# Altium footprint library Relay_SMD.PcbLib: 21 footprints (part 1 of 2)
Each footprint in its own frame and in the unit in brackets; x right, y up, seen from the top. Pads: shape width x height; smd on the part's side, far side on the other; paste and mask are expansions set on the pad; w line width, h text height; cw(c..) or ccw(c..) is an arc to the next point about the centre after c.
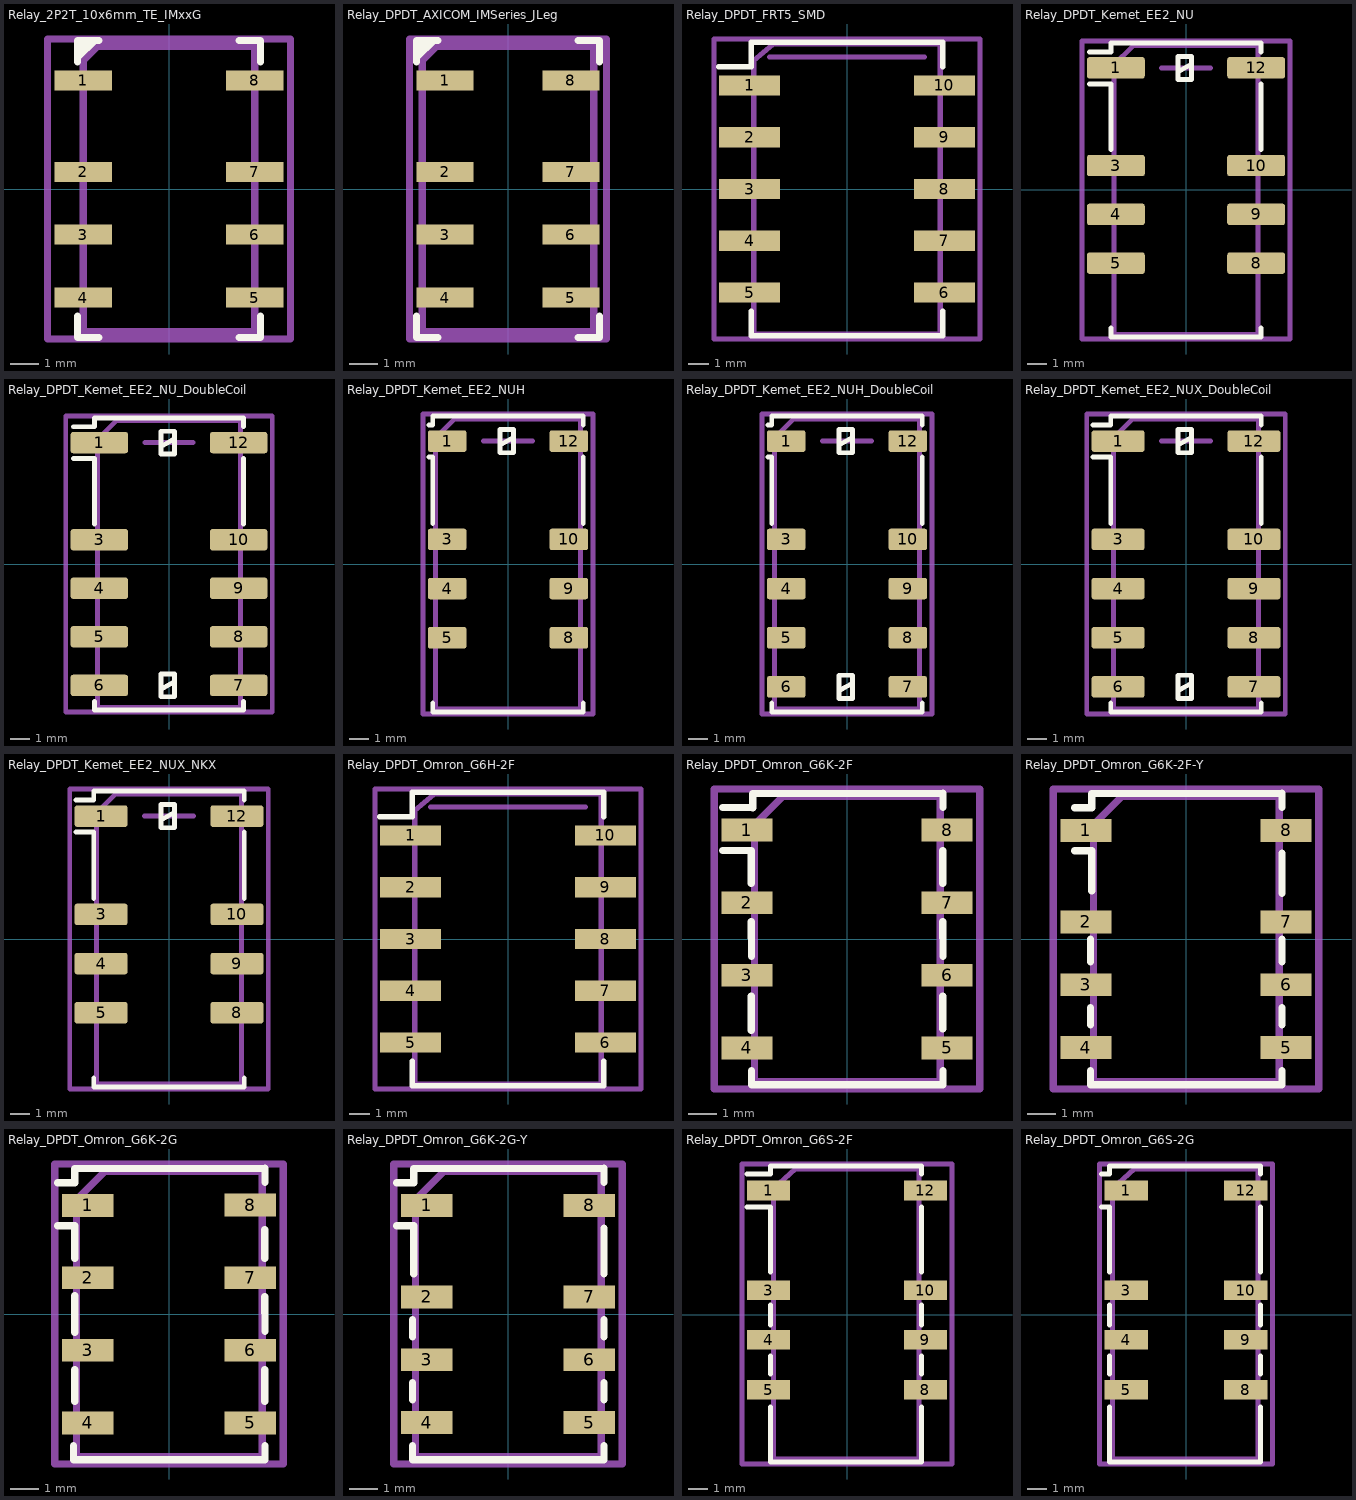
[diagram p0: the footprints below, top view; thin cyan lines are the x and y axes]

## Relay_2P2T_10x6mm_TE_IMxxG [mm]
pads (8):
  rect 2x0.7 smd: 1(-3,3.8) 2(-3,0.6) 3(-3,-1.6) 4(-3,-3.8) 5(3,-3.8) 6(3,-1.6) 7(3,0.6) 8(3,3.8)
F.SilkS:
  lines w0.254: -3.2,-4.45 -3.2,-5.2 -2.45,-5.2 ; -3.2,4.45 -3.2,5.2 -2.45,5.2 ; -3.2,4.6 -2.6,5.2 ; -3.2,4.75 -2.75,5.2 ; -3.2,4.9 -2.9,5.2 ; -3.2,5.05 -3.05,5.2 ; 2.45,-5.2 3.2,-5.2 3.2,-4.45 ; 2.45,5.2 3.2,5.2 3.2,4.45
F.Fab:
  lines w0.254: -3,-5 3,-5 3,5 -2.5,5 -3,4.5 -3,-5
  text "'.Designator'" at 0.9,-4.047 h1
F.CrtYd:
  lines w0.254: -4.25,-5.25 4.25,-5.25 4.25,5.25 -4.25,5.25 -4.25,-5.25

## Relay_DPDT_AXICOM_IMSeries_JLeg [mm]
pads (8):
  rect 2x0.7 smd: 1(-2.2,3.8) 2(-2.2,0.6) 3(-2.2,-1.6) 4(-2.2,-3.8) 5(2.2,-3.8) 6(2.2,-1.6) 7(2.2,0.6) 8(2.2,3.8)
F.SilkS:
  lines w0.254: -3.2,-4.45 -3.2,-5.2 -2.45,-5.2 ; -3.2,4.45 -3.2,5.2 -2.45,5.2 ; -3.2,4.6 -2.6,5.2 ; -3.2,4.75 -2.75,5.2 ; -3.2,4.9 -2.9,5.2 ; -3.2,5.05 -3.05,5.2 ; 2.45,-5.2 3.2,-5.2 3.2,-4.45 ; 2.45,5.2 3.2,5.2 3.2,4.45
F.Fab:
  lines w0.254: -3,-5 -3,4.5 -2.5,5 3,5 3,-5 -3,-5
  text "'.Designator'" at 0.9,-4.047 h1
F.CrtYd:
  lines w0.254: -3.45,-5.25 -3.45,5.25 3.45,5.25 3.45,-5.25 -3.45,-5.25
3D body "Relay_DPDT_AXICOM_IMSeries_JLeg.step": height 5.8, standoff 0, extent -3,-5 3.5,5

## Relay_DPDT_FRT5_SMD [mm]
pads (10):
  rect 3x1 smd: 1(-4.78,5.08) 2(-4.78,2.54) 3(-4.78,0) 4(-4.78,-2.54) 5(-4.78,-5.08) 6(4.78,-5.08) 7(4.78,-2.54) 8(4.78,0) 9(4.78,2.54) 10(4.78,5.08)
F.SilkS:
  lines w0.254: -6.3,6 -4.7,6 -4.7,7.2 4.7,7.2 4.7,6 ; -4.7,-6 -4.7,-7.2 4.7,-7.2 4.7,-6
F.Fab:
  lines w0.254: -3.81,6.477 3.81,6.477 ; -4.572,-7.112 -4.572,6.3 -3.65,7.1 4.572,7.112 4.572,-7.112 -4.572,-7.112
  text "'.Designator'" at -4.047,-0.84 h1
F.CrtYd:
  lines w0.254: -6.53,-7.36 -6.53,7.36 6.53,7.36 6.53,-7.36 -6.53,-7.36
3D body "Relay_DPDT_FRT5_SMD.step": height 5.68, standoff 0, extent -5.75,-7 5.75,7

## Relay_DPDT_Kemet_EE2_NU [mm]
pads (8):
  rrect22% 3x1.11 smd: 1(-3.645,6.35) 3(-3.645,1.27) 4(-3.645,-1.27) 5(-3.645,-3.81) 8(3.645,-3.81) 9(3.645,-1.27) 10(3.645,1.27) 12(3.645,6.35)
F.SilkS:
  lines w0.254: -5.01,5.52 -3.89,5.52 -3.89,2.1 ; -5.01,7.18 -3.89,7.18 -3.89,7.64 3.89,7.64 3.89,7.18 ; -3.89,-7.18 -3.89,-7.64 3.89,-7.64 3.89,-7.18 ; -0.41,6.15 0.29,6.55 ; 3.89,2.1 3.89,5.52 ; -0.41,5.75 -0.41,6.95 0.29,6.95 0.29,5.75 -0.41,5.75
F.Fab:
  lines w0.254: -1.27,6.35 1.27,6.35 ; -3.75,-7.5 -3.75,6.5 -2.75,7.5 3.75,7.5 3.75,-7.5 -3.75,-7.5
  text "'.Designator'" at 0.7,-4.437 h1
F.CrtYd:
  lines w0.254: -5.4,-7.75 -5.4,7.75 5.4,7.75 5.4,-7.75 -5.4,-7.75
3D body "Relay_DPDT_Kemet_EE2_NU.step": height 10, standoff 0, extent -4.75,-7.5 4.75,7.5

## Relay_DPDT_Kemet_EE2_NU_DoubleCoil [mm]
pads (10):
  rrect22% 3x1.11 smd: 1(-3.645,6.35) 3(-3.645,1.27) 4(-3.645,-1.27) 5(-3.645,-3.81) 6(-3.645,-6.35) 7(3.645,-6.35) 8(3.645,-3.81) 9(3.645,-1.27) 10(3.645,1.27) 12(3.645,6.35)
F.SilkS:
  lines w0.254: -5.01,5.52 -3.89,5.52 -3.89,2.1 ; -5.01,7.18 -3.89,7.18 -3.89,7.64 3.89,7.64 3.89,7.18 ; -3.89,-7.18 -3.89,-7.64 3.89,-7.64 3.89,-7.18 ; -0.41,-6.55 0.29,-6.15 ; -0.41,6.15 0.29,6.55 ; 3.89,2.1 3.89,5.52 ; -0.41,-6.95 -0.41,-5.75 0.29,-5.75 0.29,-6.95 -0.41,-6.95 ; -0.41,5.75 -0.41,6.95 0.29,6.95 0.29,5.75 -0.41,5.75
F.Fab:
  lines w0.254: -1.27,6.35 1.27,6.35 ; -3.75,-7.5 -3.75,6.5 -2.75,7.5 3.75,7.5 3.75,-7.5 -3.75,-7.5
  text "'.Designator'" at 0.7,-4.437 h1
F.CrtYd:
  lines w0.254: -5.4,-7.75 -5.4,7.75 5.4,7.75 5.4,-7.75 -5.4,-7.75
3D body "Relay_DPDT_Kemet_EE2_NU_DoubleCoil.step": height 10, standoff 0, extent -4.75,-7.5 4.75,7.5

## Relay_DPDT_Kemet_EE2_NUH [mm]
pads (8):
  rrect22% 2x1.11 smd: 1(-3.145,6.35) 3(-3.145,1.27) 4(-3.145,-1.27) 5(-3.145,-3.81) 8(3.145,-3.81) 9(3.145,-1.27) 10(3.145,1.27) 12(3.145,6.35)
F.SilkS:
  lines w0.254: -4.08,5.52 -3.89,5.52 -3.89,2.1 ; -4.08,7.18 -3.89,7.18 -3.89,7.64 3.89,7.64 3.89,7.18 ; -3.89,-7.18 -3.89,-7.64 3.89,-7.64 3.89,-7.18 ; -0.41,6.15 0.29,6.55 ; 3.89,2.1 3.89,5.52 ; -0.41,5.75 -0.41,6.95 0.29,6.95 0.29,5.75 -0.41,5.75
F.Fab:
  lines w0.254: -1.27,6.35 1.27,6.35 ; -3.75,-7.5 -3.75,6.5 -2.75,7.5 3.75,7.5 3.75,-7.5 -3.75,-7.5
  text "'.Designator'" at 0.7,-4.437 h1
F.CrtYd:
  lines w0.254: -4.4,-7.75 -4.4,7.75 4.4,7.75 4.4,-7.75 -4.4,-7.75
3D body "Relay_DPDT_Kemet_EE2_NUH.step": height 10, standoff 0, extent -3.75,-7.5 3.75,7.5

## Relay_DPDT_Kemet_EE2_NUH_DoubleCoil [mm]
pads (10):
  rrect22% 2x1.11 smd: 1(-3.145,6.35) 3(-3.145,1.27) 4(-3.145,-1.27) 5(-3.145,-3.81) 6(-3.145,-6.35) 7(3.145,-6.35) 8(3.145,-3.81) 9(3.145,-1.27) 10(3.145,1.27) 12(3.145,6.35)
F.SilkS:
  lines w0.254: -4.08,5.52 -3.89,5.52 -3.89,2.1 ; -4.08,7.18 -3.89,7.18 -3.89,7.64 3.89,7.64 3.89,7.18 ; -3.89,-7.18 -3.89,-7.64 3.89,-7.64 3.89,-7.18 ; -0.41,-6.55 0.29,-6.15 ; -0.41,6.15 0.29,6.55 ; 3.89,2.1 3.89,5.52 ; -0.41,-6.95 0.29,-6.95 0.29,-5.75 -0.41,-5.75 -0.41,-6.95 ; -0.41,5.75 0.29,5.75 0.29,6.95 -0.41,6.95 -0.41,5.75
F.Fab:
  lines w0.254: -1.27,6.35 1.27,6.35 ; -3.75,-7.5 3.75,-7.5 3.75,7.5 -2.75,7.5 -3.75,6.5 -3.75,-7.5
  text "'.Designator'" at 0.7,-4.437 h1
F.CrtYd:
  lines w0.254: -4.4,-7.75 4.4,-7.75 4.4,7.75 -4.4,7.75 -4.4,-7.75
3D body "Relay_DPDT_Kemet_EE2_NUH_DoubleCoil.step": height 10, standoff 0, extent -3.75,-7.5 3.75,7.5

## Relay_DPDT_Kemet_EE2_NUX_DoubleCoil [mm]
pads (10):
  rrect22% 2.73x1.11 smd: 1(-3.51,6.35) 3(-3.51,1.27) 4(-3.51,-1.27) 5(-3.51,-3.81) 6(-3.51,-6.35) 7(3.51,-6.35) 8(3.51,-3.81) 9(3.51,-1.27) 10(3.51,1.27) 12(3.51,6.35)
F.SilkS:
  lines w0.254: -4.82,5.52 -3.89,5.52 -3.89,2.1 ; -4.82,7.18 -3.89,7.18 -3.89,7.64 3.89,7.64 3.89,7.18 ; -3.89,-7.18 -3.89,-7.64 3.89,-7.64 3.89,-7.18 ; -0.41,-6.55 0.29,-6.15 ; -0.41,6.15 0.29,6.55 ; 3.89,2.1 3.89,5.52 ; -0.41,-6.95 -0.41,-5.75 0.29,-5.75 0.29,-6.95 -0.41,-6.95 ; -0.41,5.75 -0.41,6.95 0.29,6.95 0.29,5.75 -0.41,5.75
F.Fab:
  lines w0.254: -1.27,6.35 1.27,6.35 ; -3.75,-7.5 -3.75,6.5 -2.75,7.5 3.75,7.5 3.75,-7.5 -3.75,-7.5
  text "'.Designator'" at 0.83,-4.437 h1
F.CrtYd:
  lines w0.254: -5.13,-7.75 -5.13,7.75 5.13,7.75 5.13,-7.75 -5.13,-7.75
3D body "Relay_DPDT_Kemet_EE2_NUX_DoubleCoil.step": height 10.35, standoff 0, extent -4.5,-7.5 4.5,7.5

## Relay_DPDT_Kemet_EE2_NUX_NKX [mm]
pads (8):
  rrect22% 2.73x1.11 smd: 1(-3.51,6.35) 3(-3.51,1.27) 4(-3.51,-1.27) 5(-3.51,-3.81) 8(3.51,-3.81) 9(3.51,-1.27) 10(3.51,1.27) 12(3.51,6.35)
F.SilkS:
  lines w0.254: -4.82,5.52 -3.89,5.52 -3.89,2.1 ; -4.82,7.18 -3.89,7.18 -3.89,7.64 3.89,7.64 3.89,7.18 ; -3.89,-7.18 -3.89,-7.64 3.89,-7.64 3.89,-7.18 ; -0.41,6.15 0.29,6.55 ; 3.89,2.1 3.89,5.52 ; -0.41,5.75 -0.41,6.95 0.29,6.95 0.29,5.75 -0.41,5.75
F.Fab:
  lines w0.254: -1.27,6.35 1.27,6.35 ; -3.75,-7.5 -3.75,6.5 -2.75,7.5 3.75,7.5 3.75,-7.5 -3.75,-7.5
  text "'.Designator'" at 0.83,-4.437 h1
F.CrtYd:
  lines w0.254: -5.13,-7.75 -5.13,7.75 5.13,7.75 5.13,-7.75 -5.13,-7.75
3D body "Relay_DPDT_Kemet_EE2_NUX_NKX.step": height 10.35, standoff 0, extent -4.5,-7.5 4.5,7.5

## Relay_DPDT_Omron_G6H-2F [mm]
pads (10):
  rect 3x1 smd: 1(-4.78,5.08) 2(-4.78,2.54) 3(-4.78,0) 4(-4.78,-2.54) 5(-4.78,-5.08) 6(4.78,-5.08) 7(4.78,-2.54) 8(4.78,0) 9(4.78,2.54) 10(4.78,5.08)
F.SilkS:
  lines w0.254: -6.3,6 -4.7,6 -4.7,7.2 4.7,7.2 4.7,6 ; -4.7,-6 -4.7,-7.2 4.7,-7.2 4.7,-6
F.Fab:
  lines w0.254: -3.81,6.477 3.81,6.477 ; -4.572,-7.112 -4.572,6.3 -3.65,7.1 4.572,7.112 4.572,-7.112 -4.572,-7.112
  text "'.Designator'" at -4.047,-0.84 h1
F.CrtYd:
  lines w0.254: -6.53,-7.36 -6.53,7.36 6.53,7.36 6.53,-7.36 -6.53,-7.36
3D body "Relay_DPDT_Omron_G6H-2F.step": height 6.4, standoff 0, extent -5.75,-7.15 5.75,7.15

## Relay_DPDT_Omron_G6K-2F [mm]
pads (8):
  rect 1.8x0.8 smd: 1(-3.5,3.81) 2(-3.5,1.27) 3(-3.5,-1.27) 4(-3.5,-3.81) 5(3.5,-3.81) 6(3.5,-1.27) 7(3.5,1.27) 8(3.5,3.81)
F.SilkS:
  lines w0.254: -4.35,3.1 -3.35,3.09 ; -4.35,4.6 -3.3,4.59 -3.3,5.09 3.36,5.1 3.36,4.6 ; -3.35,-3.2 -3.35,-2 ; -3.35,0.6 -3.34,-0.6 ; -3.35,1.95 -3.35,3.1 ; -3.34,-4.6 -3.34,-5.1 3.36,-5.1 3.36,-4.6 ; 3.35,-3.15 3.35,-2 ; 3.35,0.6 3.36,-0.6 ; 3.35,1.95 3.35,3.1
F.Fab:
  lines w0.254: -3.24,-5 -3.24,4 -2.24,5 3.26,5 3.26,-5 -3.24,-5
  text "'.Designator'" at -4.037,-0.84 h1
F.CrtYd:
  lines w0.254: -4.65,-5.25 -4.65,5.25 4.65,5.25 4.65,-5.25 -4.65,-5.25
3D body "Relay_DPDT_Omron_G6K-2F.step": height 5.58, standoff 0, extent -3.9,-5 3.9,5

## Relay_DPDT_Omron_G6K-2F-Y [mm]
pads (8):
  rect 1.8x0.8 smd: 1(-3.5,3.8) 2(-3.5,0.6) 3(-3.5,-1.6) 4(-3.5,-3.8) 5(3.5,-3.8) 6(3.5,-1.6) 7(3.5,0.6) 8(3.5,3.8)
F.SilkS:
  lines w0.254: -3.9,3.09 -3.3,3.09 -3.3,1.69 ; -3.9,4.59 -3.3,4.59 -3.3,5.09 3.36,5.1 3.36,4.6 ; -3.34,-4.6 -3.34,-5.1 3.36,-5.1 3.36,-4.6 ; -3.34,-3 -3.34,-2.4 ; -3.34,-0.8 -3.34,0 ; 3.36,-3 3.36,-2.4 ; 3.36,-0.8 3.36,0 ; 3.36,1.6 3.36,3
F.Fab:
  lines w0.254: -3.24,-5 -3.24,4 -2.24,5 3.26,5 3.26,-5 -3.24,-5
  text "'.Designator'" at -4.037,-0.84 h1
F.CrtYd:
  lines w0.254: -4.65,-5.25 -4.65,5.25 4.65,5.25 4.65,-5.25 -4.65,-5.25
3D body "Relay_DPDT_Omron_G6K-2F-Y.step": height 5.58, standoff 0, extent -3.9,-5 3.9,5

## Relay_DPDT_Omron_G6K-2G [mm]
pads (8):
  rect 1.8x0.8 smd: 1(-2.85,3.8) 2(-2.85,1.27) 3(-2.85,-1.27) 4(-2.85,-3.81) 5(2.85,-3.81) 6(2.85,-1.27) 7(2.85,1.27) 8(2.85,3.81)
F.SilkS:
  lines w0.254: -3.9,3.09 -3.3,3.09 -3.3,1.95 ; -3.9,4.59 -3.3,4.59 -3.3,5.09 3.36,5.1 3.36,4.6 ; -3.34,-4.6 -3.34,-5.1 3.36,-5.1 3.36,-4.6 ; -3.3,-3.05 -3.3,-1.95 ; -3.3,-0.65 -3.3,0.65 ; 3.35,-3.05 3.35,-1.95 ; 3.35,0.6 3.36,-0.6 ; 3.35,1.95 3.35,2.95
F.Fab:
  lines w0.254: -3.24,-5 -3.24,4 -2.24,5 3.26,5 3.26,-5 -3.24,-5
  text "'.Designator'" at -4.037,-0.84 h1
F.CrtYd:
  lines w0.254: -4,-5.25 -4,5.25 4,5.25 4,-5.25 -4,-5.25
3D body "Relay_DPDT_Omron_G6K-2G.step": height 5.8, standoff 0, extent -3.3,-5 3.3,5

## Relay_DPDT_Omron_G6K-2G-Y [mm]
pads (8):
  rect 1.8x0.8 smd: 1(-2.85,3.8) 2(-2.85,0.6) 3(-2.85,-1.6) 4(-2.85,-3.8) 5(2.85,-3.8) 6(2.85,-1.6) 7(2.85,0.6) 8(2.85,3.8)
F.SilkS:
  lines w0.254: -3.9,3.09 -3.3,3.09 -3.3,1.4 ; -3.9,4.59 -3.3,4.59 -3.3,5.09 3.36,5.1 3.36,4.6 ; -3.34,-4.6 -3.34,-5.1 3.36,-5.1 3.36,-4.6 ; -3.34,-3 -3.34,-2.4 ; -3.34,-0.8 -3.34,-0.2 ; 3.36,-3 3.36,-2.4 ; 3.36,-0.8 3.36,-0.2 ; 3.36,1.4 3.36,3
F.Fab:
  lines w0.254: -3.24,-5 -3.24,4 -2.24,5 3.26,5 3.26,-5 -3.24,-5
  text "'.Designator'" at -4.037,-0.84 h1
F.CrtYd:
  lines w0.254: -4,-5.25 -4,5.25 4,5.25 4,-5.25 -4,-5.25
3D body "Relay_DPDT_Omron_G6K-2G-Y.step": height 5.8, standoff 0, extent -3.3,-5 3.3,5

## Relay_DPDT_Omron_G6S-2F [mm]
pads (8):
  rect 2.2x1 smd: 1(-4,6.35) 3(-4,1.27) 4(-4,-1.27) 5(-4,-3.81) 8(4,-3.81) 9(4,-1.27) 10(4,1.27) 12(4,6.35)
F.SilkS:
  lines w0.254: -5.1,5.5 -3.9,5.5 -3.9,2.2 ; -5.1,7.2 -3.9,7.2 -3.9,7.6 3.8,7.6 3.8,7.2 ; -3.9,-4.7 -3.9,-7.5 3.8,-7.5 3.8,-4.7 ; -3.9,-3 -3.9,-2.1 ; -3.9,-0.5 -3.9,0.5 ; 3.8,-3 3.8,-2.1 ; 3.8,-0.5 3.8,0.5 ; 3.8,2.2 3.8,5.5
F.Fab:
  lines w0.254: -3.74,-7.35 -3.74,6.45 -2.64,7.45 3.66,7.45 3.66,-7.35 -3.74,-7.35
  text "'.Designator'" at -4.047,-0.84 h1
F.CrtYd:
  lines w0.254: -5.35,-7.6 -5.35,7.7 5.35,7.7 5.35,-7.6 -5.35,-7.6
3D body "Relay_DPDT_Omron_G6S-2F.step": height 9.33, standoff 0, extent -4.6,-7.4 4.6,7.4

## Relay_DPDT_Omron_G6S-2G [mm]
pads (8):
  rect 2.2x1 smd: 1(-3.05,6.35) 3(-3.05,1.27) 4(-3.05,-1.27) 5(-3.05,-3.81) 8(3.05,-3.81) 9(3.05,-1.27) 10(3.05,1.27) 12(3.05,6.35)
F.SilkS:
  lines w0.254: -4.3,5.5 -3.9,5.5 -3.9,2.2 ; -4.3,7.2 -3.9,7.2 -3.9,7.6 3.8,7.6 3.8,7.2 ; -3.9,-4.7 -3.9,-7.5 3.8,-7.5 3.8,-4.7 ; -3.9,-3 -3.9,-2.1 ; -3.9,-0.5 -3.9,0.5 ; 3.8,-3 3.8,-2.1 ; 3.8,-0.5 3.8,0.5 ; 3.8,2.2 3.8,5.5
F.Fab:
  lines w0.254: -3.74,-7.35 -3.74,6.45 -2.64,7.45 3.66,7.45 3.66,-7.35 -3.74,-7.35
  text "'.Designator'" at -4.047,-0.84 h1
F.CrtYd:
  lines w0.254: -4.4,-7.6 -4.4,7.7 4.4,7.7 4.4,-7.6 -4.4,-7.6
3D body "Relay_DPDT_Omron_G6S-2G.step": height 9.33, standoff 0, extent -3.662,-7.4 3.662,7.4